# EAGLE library part LPC1114 (library Controle)
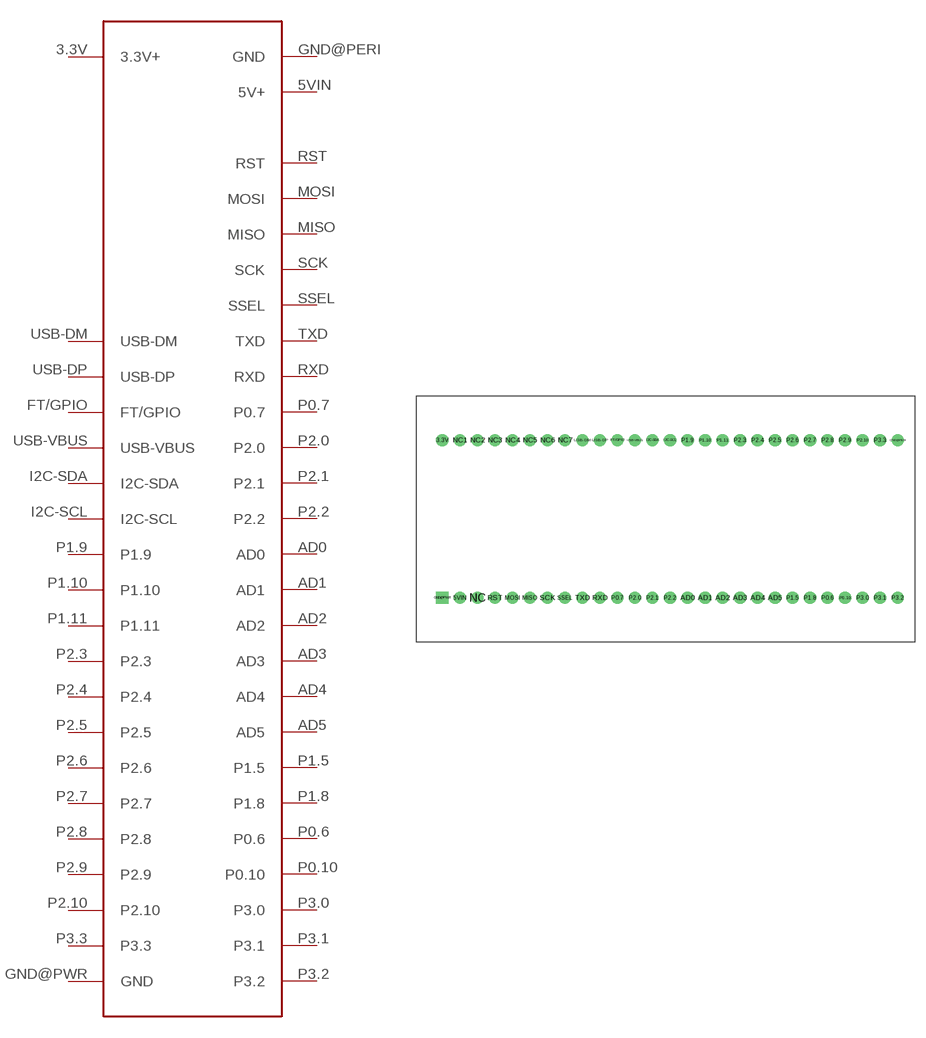
[diagram p1: symbol with the pads of LPC1114; footprint LPC1114]

Designator prefix -

## LPC1114  [LPC1114]
3.3V  3.3V+  sup
5VIN  5V+  sup
AD0  AD0
AD1  AD1
AD2  AD2
AD3  AD3
AD4  AD4
AD5  AD5
FT/GPIO  FT/GPIO
GND@PERI  GND  sup
GND@PWR  GND  sup
I2C-SCL  I2C-SCL
I2C-SDA  I2C-SDA
MISO  MISO
MOSI  MOSI
P0.6  P0.6
P0.7  P0.7
P0.10  P0.10
P1.5  P1.5
P1.8  P1.8
P1.9  P1.9
P1.10  P1.10
P1.11  P1.11
P2.0  P2.0
P2.1  P2.1
P2.2  P2.2
P2.3  P2.3
P2.4  P2.4
P2.5  P2.5
P2.6  P2.6
P2.7  P2.7
P2.8  P2.8
P2.9  P2.9
P2.10  P2.10
P3.0  P3.0
P3.1  P3.1
P3.2  P3.2
P3.3  P3.3
RST  RST
RXD  RXD
SCK  SCK
SSEL  SSEL
TXD  TXD
USB-DM  USB-DM
USB-DP  USB-DP
USB-VBUS  USB-VBUS

## Footprint LPC1114 (pad centres in mm)
drill 0.7 pad 1.778 round: 3.3V -31.75,11.43; 5VIN -29.21,-11.43; AD0 3.81,-11.43; AD1 6.35,-11.43; AD2 8.89,-11.43; AD3 11.43,-11.43; AD4 13.97,-11.43; AD5 16.51,-11.43; FT/GPIO -6.35,11.43; GND@PERI 34.29,11.43; I2C-SCL 1.27,11.43; I2C-SDA -1.27,11.43; MISO -19.05,-11.43; MOSI -21.59,-11.43; NC -26.67,-11.43; NC1 -29.21,11.43; NC2 -26.67,11.43; NC3 -24.13,11.43; NC4 -21.59,11.43; NC5 -19.05,11.43; NC6 -16.51,11.43; NC7 -13.97,11.43; P0.6 24.13,-11.43; P0.7 -6.35,-11.43; P0.10 26.67,-11.43; P1.5 19.05,-11.43; P1.8 21.59,-11.43; P1.9 3.81,11.43; P1.10 6.35,11.43; P1.11 8.89,11.43; P2.0 -3.81,-11.43; P2.1 -1.27,-11.43; P2.2 1.27,-11.43; P2.3 11.43,11.43; P2.4 13.97,11.43; P2.5 16.51,11.43; P2.6 19.05,11.43; P2.7 21.59,11.43; P2.8 24.13,11.43; P2.9 26.67,11.43; P2.10 29.21,11.43; P3.0 29.21,-11.43; P3.1 31.75,-11.43; P3.2 34.29,-11.43; P3.3 31.75,11.43; RST -24.13,-11.43; RXD -8.89,-11.43; SCK -16.51,-11.43; SSEL -13.97,-11.43; TXD -11.43,-11.43; USB-DM -11.43,11.43; USB-DP -8.89,11.43; USB-VBUS -3.81,11.43
drill 0.7 pad 1.778 square: GND@PWR -31.75,-11.43